# EAGLE library part 61202021621 (library SCARA)
WR-BHD 2.54mm Male Box Header, 20 Pins=>Code : Con_WTB_BHD_2.54_Male_THT_WS_61202021621 <http://katalog.we-online.de/media/thumbs2/eican/thb_Con_WTB_BHD_2.54_Male_THT_WS_6120xx21621_pf2.jpg> Details see: http://katalog.we-online.de/en/em/612_0xx_216_21 Created 2014-06-04, Karrer Zheng 2014 (C) Würth Elektronik
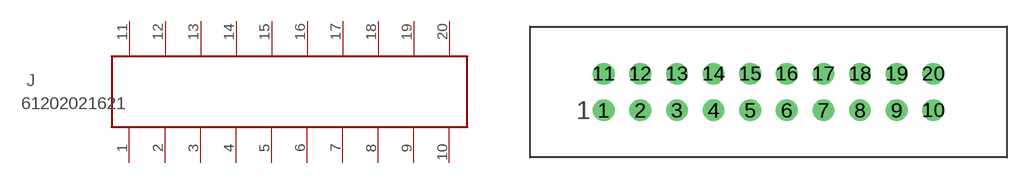
[diagram p5: symbol with the pads of 61202021621; footprint 61202021621]

Designator prefix J

## 61202021621 (DESCRIPTION: Connector Header Through Hole 20 position 0.100 (2.54mm); DIGI-KEY_PART_NUMBER: 732-2096-ND; MF: Würth Elektronik; MP: 61202021621; PACKAGE: None; PURCHASE-URL: https://pricing.snapeda.com/search/part/61202021621/?ref=eda)  [61202021621]
1  1  pas
2  3  pas
3  5  pas
4  7  pas
5  9  pas
6  11  pas
7  13  pas
8  15  pas
9  17  pas
10  19  pas
11  2  pas
12  4  pas
13  6  pas
14  8  pas
15  10  pas
16  12  pas
17  14  pas
18  16  pas
19  18  pas
20  20  pas

## Footprint 61202021621 (pad centres in mm)
WR-BHD 2.54mm Male Box Header 20 Pins
drill 1: 1 -11.43,-1.27; 2 -8.89,-1.27; 3 -6.35,-1.27; 4 -3.81,-1.27; 5 -1.27,-1.27; 6 1.27,-1.27; 7 3.81,-1.27; 8 6.35,-1.27; 9 8.89,-1.27; 10 11.43,-1.27; 11 -11.43,1.27; 12 -8.89,1.27; 13 -6.35,1.27; 14 -3.81,1.27; 15 -1.27,1.27; 16 1.27,1.27; 17 3.81,1.27; 18 6.35,1.27; 19 8.89,1.27; 20 11.43,1.27